# Altium schematic symbol library OBDH_Ed02.SchLib: 44 symbols
Pins are listed as number, name and electrical type; pins without a type are passive.

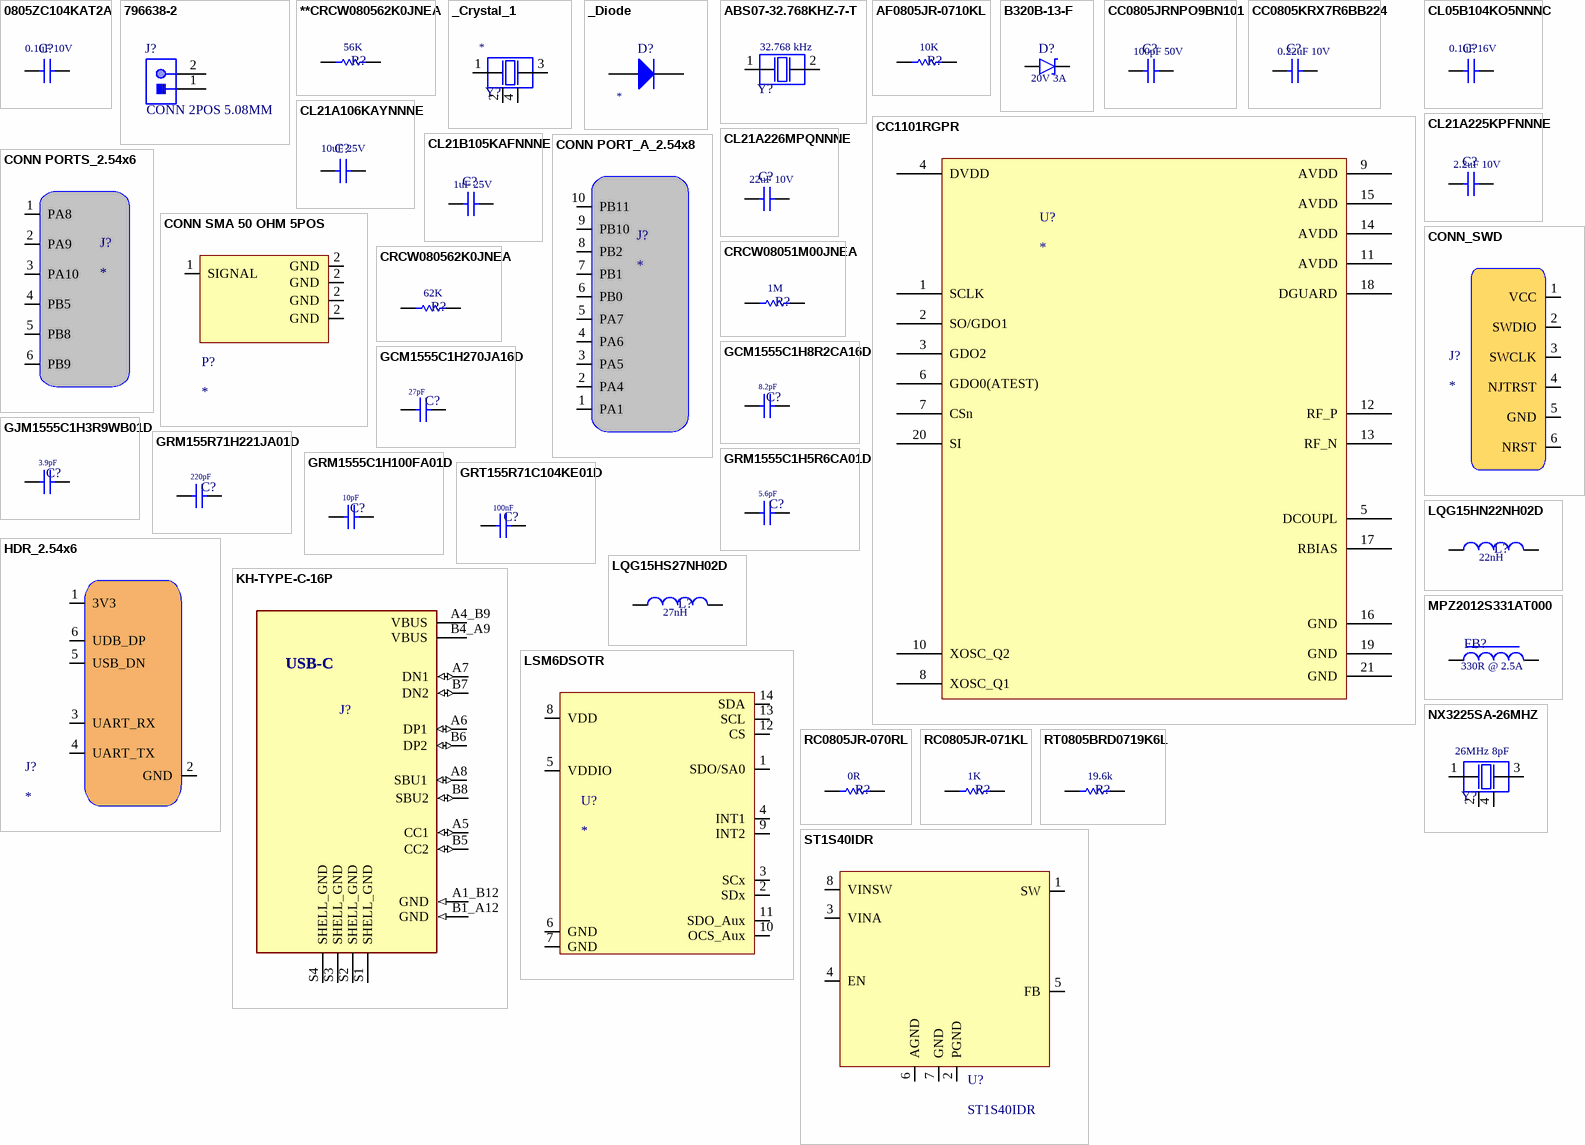
[diagram p0: symbols 0805ZC104KAT2A to ST1S40IDR]

## 0805ZC104KAT2A
designator C?  Valor: 0.1uF 10V  (hidden comment: *)
CAP CER 0.1UF 10V X5R 0805; Manufacturer: Kyocera AVX; Manufacturer Part Number: 0805ZC104KAT2A; Origem: OBDH_Ed02; Case/Package: 0805; Observação: *
footprint CAP_0805 (INDUTOR 0805)
pins: 1, 2

## 796638-2
designator J?  Valor: CONN 2POS 5.08MM  (hidden comment: 796638-2)
CONN TERM BLOCK HDR 2POS 90DEG 5.08MM; Manufacturer: TE Connectivity AMP Connectors; Origem: GT1021_Ed04r2; Manufacturer Part Number: 796638-2; Case/Package: PTH; Observação: *
footprint CONN TERM BLOCK 2POS 5.08MM (NG3_ED03r1)
pins: 1, 2

## **CRCW080562K0JNEA
designator R?  Valor: 56K  (hidden comment: *)
RES SMD 56K OHM 5% 1/8W 0805; Manufacturer: YAGEO; Manufacturer Part Number: CRCW080562K0JNEA; Case/Package: 0805; Origem: *; Observação: *
footprint RES_0805 (INDUTOR 0805)
pins: 1, 2

## _Crystal_1
designator Y?
Crystal; Observação: *; Valor: *
pins: 1, 2, 3, 4

## _Diode
designator D?
Diode; Case/Package: *; Manufacturer: *; Manufacturer Part Number: *; Origem: *; Observação: *; Valor: *
pins: 1 A, 2 K

## ABS07-32.768KHZ-7-T
designator Y?  Valor: 32.768 kHz  (hidden comment: *)
CRYSTAL 32.7680KHZ 7PF SMD; Manufacturer: Abracon LLC; Manufacturer Part Number: ABS07-32.768KHZ-7-T; Case/Package: 2-SMD; Observação: *
footprint Crystal_32k
pins: 1, 2

## AF0805JR-0710KL
designator R?  Valor: 10K  (hidden comment: *)
RES SMD 10K OHM 5% 1/8W 0805; Manufacturer: YAGEO; Manufacturer Part Number: AF0805JR-0710KL; Case/Package: 0805; Origem: *; Observação: *
footprint RES_0805 (INDUTOR 0805)
pins: 1, 2

## B320B-13-F
designator D?  Valor: 20V 3A  (hidden comment: *)
DIODE SCHOTTKY 20V 3A SMB; Manufacturer: Diodes Incorporated; Manufacturer Part Number: B320B-13-F; Origem: OBDH_Ed02; Case/Package: DO-214
footprint DO-214A
pins: 1 A, 2 K

## CC0805JRNPO9BN101
designator C?  Valor: 100pF 50V  (hidden comment: *)
CAP CER 100PF 50V C0G/NPO 0805; Manufacturer: YAGEO; Manufacturer Part Number: CC0805JRNPO9BN101; Origem: OBDH_Ed02; Case/Package: 0805; Observação: *
footprint CAP_0805 (INDUTOR 0805)
pins: 1, 2

## CC0805KRX7R6BB224
designator C?  Valor: 0.22uF 10V  (hidden comment: *)
CAP CER 0.22uF 10V X5R 0805; Manufacturer: YAGEO; Manufacturer Part Number: CC0805KRX7R6BB224; Origem: OBDH_Ed02; Case/Package: 0805; Observação: *
footprint CAP_0805 (INDUTOR 0805)
pins: 1, 2

## CC1101RGPR
designator U?
IC RF TXRX ISM<1GHZ 20VFQFN; Case/Package: *; Manufacturer: *; Manufacturer Part Number: *; Origem: *; Observação: *; Valor: *
footprint QLP-4x4
pins: 1 SCLK, 2 SO/GDO1, 3 GDO2, 4 DVDD, 5 DCOUPL, 6 GDO0(ATEST), 7 CSn, 8 XOSC_Q1, 9 AVDD, 10 XOSC_Q2, 11 AVDD, 12 RF_P, 13 RF_N, 14 AVDD, 15 AVDD, 16 GND, 17 RBIAS, 18 DGUARD, 19 GND, 20 SI, 21 GND

## CL05B104KO5NNNC
designator C?  Valor: 0.1uF 16V  (hidden comment: *)
CAP CER 0.1UF 16V X5R 0805; Manufacturer: Samsung Electro-Mechanics; Manufacturer Part Number: CL05B104KO5NNNC; Origem: OBDH_Ed02; Case/Package: 0805; Observação: *
footprint CAP_0805 (INDUTOR 0805)
pins: 1, 2

## CL21A106KAYNNNE
designator C?  Valor: 10uF 25V  (hidden comment: *)
CAP CER 10UF 25V X5R 0805; Manufacturer: Samsung Electro-Mechanics; Manufacturer Part Number: CL21A106KAYNNNE; Origem: OBDH_Ed02; Case/Package: 0805; Observação: *
footprint CAP_0805 (INDUTOR 0805)
pins: 1, 2

## CL21A225KPFNNNE
designator C?  Valor: 2.2uF 10V  (hidden comment: *)
CAP CER 2.2UF 10V X5R 0805; Manufacturer: Samsung Electro-Mechanics; Manufacturer Part Number: CL21A225KPFNNNE; Origem: OBDH_Ed02; Case/Package: 0805; Observação: *
footprint CAP_0805 (INDUTOR 0805)
pins: 1, 2

## CL21A226MPQNNNE
designator C?  Valor: 22uF 10V  (hidden comment: *)
CAP CER 22UF 10V X5R 0805; Manufacturer: Samsung Electro-Mechanics; Manufacturer Part Number: CL21A226MPQNNNE; Origem: OBDH_Ed02; Case/Package: 0805; Observação: *
footprint CAP_0805 (INDUTOR 0805)
pins: 1, 2

## CL21B105KAFNNNE
designator C?  Valor: 1uF 25V  (hidden comment: *)
CAP CER 1UF 25V X7R 0805; Manufacturer: Samsung Electro-Mechanics; Manufacturer Part Number: CL21B105KAFNNNE; Origem: OBDH_Ed02; Case/Package: 0805; Observação: *
footprint CAP_0805 (INDUTOR 0805)
pins: 1, 2

## CONN PORT_A_2.54x8
designator J?
CONN HDR FEMALE 2.54 x 8POS
footprint CONN_HDR_2.54x10 - PB
pins: 1 PA1 (io), 2 PA4 (io), 3 PA5 (io), 4 PA6 (io), 5 PA7 (io), 6 PB0 (io), 7 PB1 (io), 8 PB2 (io), 9 PB10 (io), 10 PB11 (io)

## CONN PORTS_2.54x6
designator J?
CONN HDR FEMALE 2.54 x 6POS
footprint CONN_HDR_2.54x6 - PA
pins: 1 PA8, 2 PA9, 3 PA10, 4 PB5, 5 PB8, 6 PB9

## CONN SMA 50 OHM 5POS
designator P?
CONN SMA JACK R/A 50OHM PCB
footprint CONN PTH SMA JACK CONSMA002-L-G (MTER Ed02r1)
pins: 1 SIGNAL, 2 GND (power), 2 GND (power), 2 GND (power), 2 GND (power)

## CONN_SWD
designator J?
footprint CONN_5POS_2.54MM - duplicate
pins: 1 VCC, 2 SWDIO, 3 SWCLK, 4 NJTRST, 5 GND, 6 NRST

## CRCW08051M00JNEA
designator R?  Valor: 1M  (hidden comment: *)
RES SMD 1M OHM 5% 1/8W 0805; Manufacturer: Vishay Intertech; Manufacturer Part Number: CRCW08051M00JNEA; Case/Package: 0805; Origem: *; Observação: *
footprint RES_0805 (INDUTOR 0805)
pins: 1, 2

## CRCW080562K0JNEA
designator R?  Valor: 62K  (hidden comment: *)
RES SMD 62K OHM 5% 1/8W 0805; Manufacturer: YAGEO; Manufacturer Part Number: CRCW080562K0JNEA; Case/Package: 0805; Origem: *; Observação: *
footprint RES_0805 (INDUTOR 0805)
pins: 1, 2

## GCM1555C1H8R2CA16D
designator C?  Valor: 8.2pF  (hidden comment: *)
CAP CER 8.2PF 50V C0G/NP0 0402; Manufacturer: Murata Electronics; Manufacturer Part Number: GCM1555C1H8R2CA16D; Case/Package: 0402; Origem: *; Observação: *
footprint CAP 0402 (GT1021_ED02r2)
pins: 1, 2

## GCM1555C1H270JA16D
designator C?  Valor: 27pF  (hidden comment: *)
CAP CER 27PF 50V C0G/NP0 0402; Manufacturer: Murata Electronics; Manufacturer Part Number: GCM1555C1H270JA16D; Case/Package: 0402; Origem: *; Observação: *
footprint CAP 0402 (GT1021_ED02r2)
pins: 1, 2

## GJM1555C1H3R9WB01D
designator C?  Valor: 3.9pF  (hidden comment: *)
CAP CER 3.9PF 50V C0G/NP0 0402; Manufacturer: Murata Electronics; Manufacturer Part Number: GJM1555C1H3R9WB01D; Case/Package: 0402; Origem: *; Observação: *
footprint CAP 0402 (GT1021_ED02r2)
pins: 1, 2

## GRM155R71H221JA01D
designator C?  Valor: 220pF  (hidden comment: *)
CAP CER 220PF 50V X7R 0402; Manufacturer: Murata Electronics; Manufacturer Part Number: GRM155R71H221JA01D; Case/Package: 0402; Origem: *; Observação: *
footprint CAP 0402 (GT1021_ED02r2)
pins: 1, 2

## GRM1555C1H5R6CA01D
designator C?  Valor: 5.6pF  (hidden comment: *)
CAP CER 5.6PF 50V C0G/NP0 0402; Manufacturer: Murata Electronics; Manufacturer Part Number: GRM1555C1H5R6CA01D; Case/Package: 0402; Origem: *; Observação: *
footprint CAP 0402 (GT1021_ED02r2)
pins: 1, 2

## GRM1555C1H100FA01D
designator C?  Valor: 10pF  (hidden comment: *)
CAP CER 10PF 50V C0G/NP0 0402; Manufacturer: Murata Electronics; Manufacturer Part Number: GRM1555C1H100FA01D; Case/Package: 0402; Origem: *; Observação: *
footprint CAP 0402 (GT1021_ED02r2)
pins: 1, 2

## GRT155R71C104KE01D
designator C?  Valor: 100nF  (hidden comment: *)
CAP CER 0.1UF 16V X7R 0402; Manufacturer: Murata Electronics; Manufacturer Part Number: GRT155R71C104KE01D; Case/Package: 0402; Origem: *; Observação: *
footprint CAP 0402 (GT1021_ED02r2)
pins: 1, 2

## HDR_2.54x6
designator J?
CONN HDR FEMALE 2.54x6
footprint HDR_2.54x6
pins: 1 3V3, 2 GND, 3 UART_RX, 4 UART_TX, 5 USB_DN, 6 UDB_DP

## KH-TYPE-C-16P
designator J?  (value not drawn)
USB-C (USB TYPE-C) USB 2.0 Receptacle Connector 24 (16+8 Dummy) Position Surface Mount, Right Angle; Through Hole; MP: USB4105-GF-A; MF: GCT; Price: None; Availability: In Stock; Package: None; SnapEDA_Link: https://www.snapeda.com/parts/USB4105-GF-A/Global+Connector+Technology/view-part/?ref=snap; Check_prices: https://www.snapeda.com/parts/USB4105-GF-A/Global+Connector+Technology/view-part/?ref=eda; Value: *; Purchase-URL: https://pricing.snapeda.com/search/part/USB4105-GF-A/?ref=eda
footprint USB-111HF-B-CU
pins: A1_B12 GND (in), A4_B9 VBUS (power), A5 CC1 (io), A6 DP1 (io), A7 DN1 (io), A8 SBU1 (io), B1_A12 GND (in), B4_A9 VBUS (power), B5 CC2 (io), B6 DP2 (io), B7 DN2 (io), B8 SBU2 (io), S1 SHELL_GND (power), S2 SHELL_GND (power), S3 SHELL_GND (power), S4 SHELL_GND (power)
text: USB-C

## LQG15HN22NH02D
designator L?  value 22nH  (hidden comment: *)
FIXED IND 22NH 350MA 580MOHM SMD; Manufacturer: Murata Electronics; Manufacturer Part Number: LQG15HN22NH02D; Case/Package: 0402; Origem: *; Observação: *
footprint IND 0402 (M1 Ed01r2)
pins: 1, 2

## LQG15HS27NH02D
designator L?  value 27nH  (hidden comment: *)
FIXED IND 27NH 350MA 460MOHM SMD; Manufacturer: Murata Electronics; Manufacturer Part Number: LQG15HS27NH02D; Case/Package: 0402; Origem: *; Observação: *
footprint IND 0402 (M1 Ed01r2)
pins: 1, 2

## LSM6DSOTR
designator U?
Accelerometer, Gyroscope, 6 Axis Sensor I²C, SPI Output
footprint IC_IIM-42351
pins: 1 SDO/SA0 (io), 2 SDx (io), 3 SCx (io), 4 INT1 (io), 5 VDDIO (power), 6 GND (power), 7 GND (power), 8 VDD (power), 9 INT2 (io), 10 OCS_Aux (io), 11 SDO_Aux (io), 12 CS (io), 13 SCL (io), 14 SDA (io)

## MPZ2012S331AT000
designator FB?  Valor: 330R @ 2.5A  (hidden comment: *)
FERRITE BEAD 330 OHM 0805 1LN; Manufacturer: TDK Corporation; Manufacturer Part Number: MPZ2012S331AT000; Case/Package: 0805; Origem: *; Observação: *
footprint IND_0805 (INDUTOR 0805)
pins: 1, 2

## NX3225SA-26MHZ
designator Y?  Valor: 26MHz 8pF  (hidden comment: *)
CRYSTAL 26.0000MHZ 10PF SMD; Manufacturer: NDK America, Inc.; Manufacturer Part Number: NX3225SA-26MHZ; Observação: *
footprint Crystal-4SMD
pins: 1, 2, 3, 4

## RC0805JR-070RL
designator R?  Valor: 0R  (hidden comment: *)
RES 0 OHM JUMPER 1/8W 0805; Manufacturer: YAGEO; Manufacturer Part Number: RC0805JR-070RL; Case/Package: 0805; Origem: *; Observação: *
footprint RES_0805 (INDUTOR 0805)
pins: 1, 2

## RC0805JR-071KL
designator R?  Valor: 1K  (hidden comment: *)
RES SMD 1K OHM 5% 1/8W 0805; Manufacturer: YAGEO; Manufacturer Part Number: RC0805JR-071KL; Case/Package: 0805; Origem: *; Observação: *
footprint RES_0805 (INDUTOR 0805)
pins: 1, 2

## RT0805BRD0719K6L
designator R?  Valor: 19.6k  (hidden comment: *)
RES SMD 19.6K OHM 5% 1/8W 0805; Manufacturer: YAGEO; Manufacturer Part Number: RT0805BRD0719K6L; Case/Package: 0805; Origem: *; Observação: *
footprint RES_0805 (INDUTOR 0805)
pins: 1, 2

## ST1S40IDR
designator U?
IC REG BUCK ADJUSTABLE 3A 8SO; Case/Package: *; Manufacturer: *; Manufacturer Part Number: *; Origem: *; Observação: *; Valor: *
footprint SO8-BW
pins: 1 SW, 2 PGND, 3 VINA, 4 EN, 5 FB, 6 AGND, 7 GND, 8 VINSW

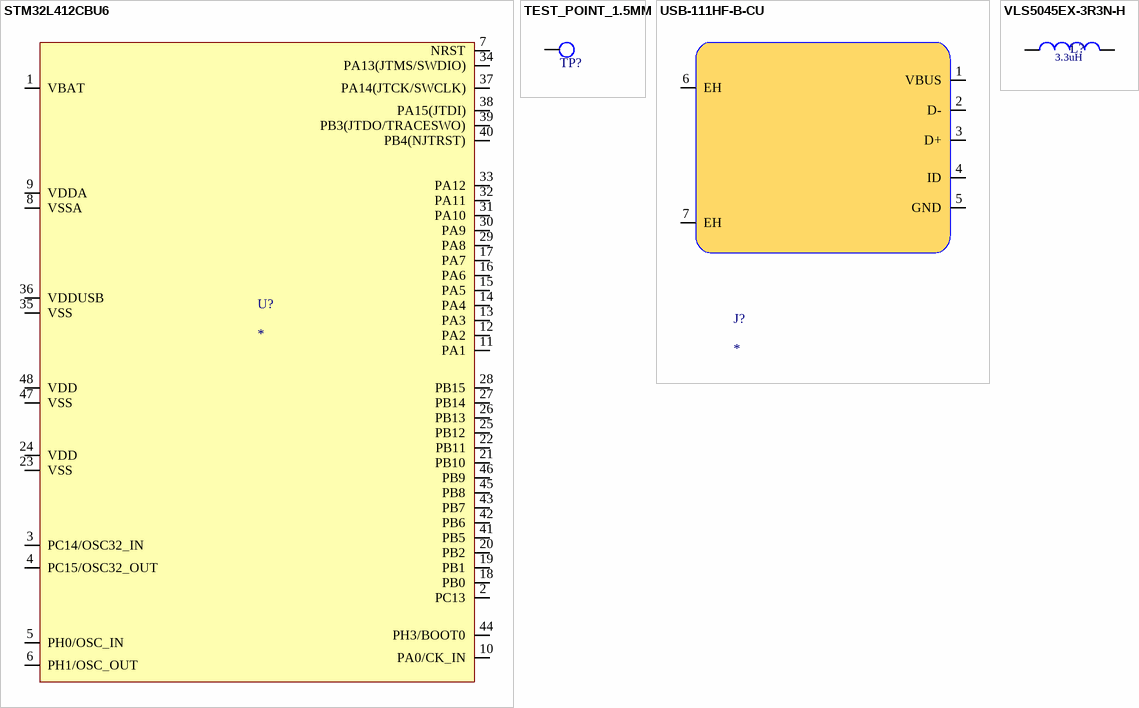
[diagram p1: symbols STM32L412CBU6 to VLS5045EX-3R3N-H]

## STM32L412CBU6
designator U?
ARM® Cortex®-M4 STM32L4 Microcontroller IC 32-Bit Single-Core 80MHz 128KB (128K x 8) FLASH 48-LQFP (7x7)
footprint QFN-48
pins: 1 VBAT (power), 2 PC13 (io), 3 PC14/OSC32_IN (io), 4 PC15/OSC32_OUT (io), 5 PH0/OSC_IN (io), 6 PH1/OSC_OUT (io), 7 NRST (io), 8 VSSA, 9 VDDA (power), 10 PA0/CK_IN (io), 11 PA1 (io), 12 PA2 (io), 13 PA3 (io), 14 PA4 (io), 15 PA5 (io), 16 PA6 (io), 17 PA7 (io), 18 PB0 (io), 19 PB1 (io), 20 PB2 (io), 21 PB10 (io), 22 PB11 (io), 23 VSS (power), 24 VDD (power), 25 PB12 (io), 26 PB13 (io), 27 PB14 (io), 28 PB15 (io), 29 PA8 (io), 30 PA9 (io), 31 PA10 (io), 32 PA11 (io), 33 PA12 (io), 34 PA13(JTMS/SWDIO) (io), 35 VSS, 36 VDDUSB (power), 37 PA14(JTCK/SWCLK) (io), 38 PA15(JTDI) (io), 39 PB3(JTDO/TRACESWO) (io), 40 PB4(NJTRST) (io), 41 PB5 (io), 42 PB6 (io), 43 PB7 (io), 44 PH3/BOOT0 (io), 45 PB8 (io), 46 PB9 (io), 47 VSS (power), 48 VDD (power)

## TEST_POINT_1.5MM
designator TP?  (value not drawn)  (no BOM)
TEST_POINT; Origem: -; Case/Package: SMD; Manufacturer: -; Manufacturer Part Number: TEST_POINT; Observação: *; Valor: *
footprint TESTPOINT_1.5MM (GT1021_ED04R1)
pins: 1

## USB-111HF-B-CU
designator J?
Female 5 Micro-B Surface Mount SMD USB Connectors ROHS
footprint USB-111HF-B-CU
pins: 1 VBUS, 2 D-, 3 D+, 4 ID, 5 GND, 6 EH, 7 EH

## VLS5045EX-3R3N-H
designator L?  value 3.3uH  (hidden comment: *)
FIXED IND 3.3UH 4.2A 35.1MOHM SM; Manufacturer Part Number: VLS5045EX-3R3N-H; Case/Package: *; Manufacturer: *; Origem: *; Observação: *
footprint IND_6.1-4
pins: 1, 2